# Altium footprint library semicon.PCBLIB: 115 footprints (part 2 of 8)
Each footprint in its own frame and in the unit in brackets; x right, y up, seen from the top. Pads: shape width x height; smd on the part's side, far side on the other; paste and mask are expansions set on the pad; w line width, h text height; cw(c..) or ccw(c..) is an arc to the next point about the centre after c.
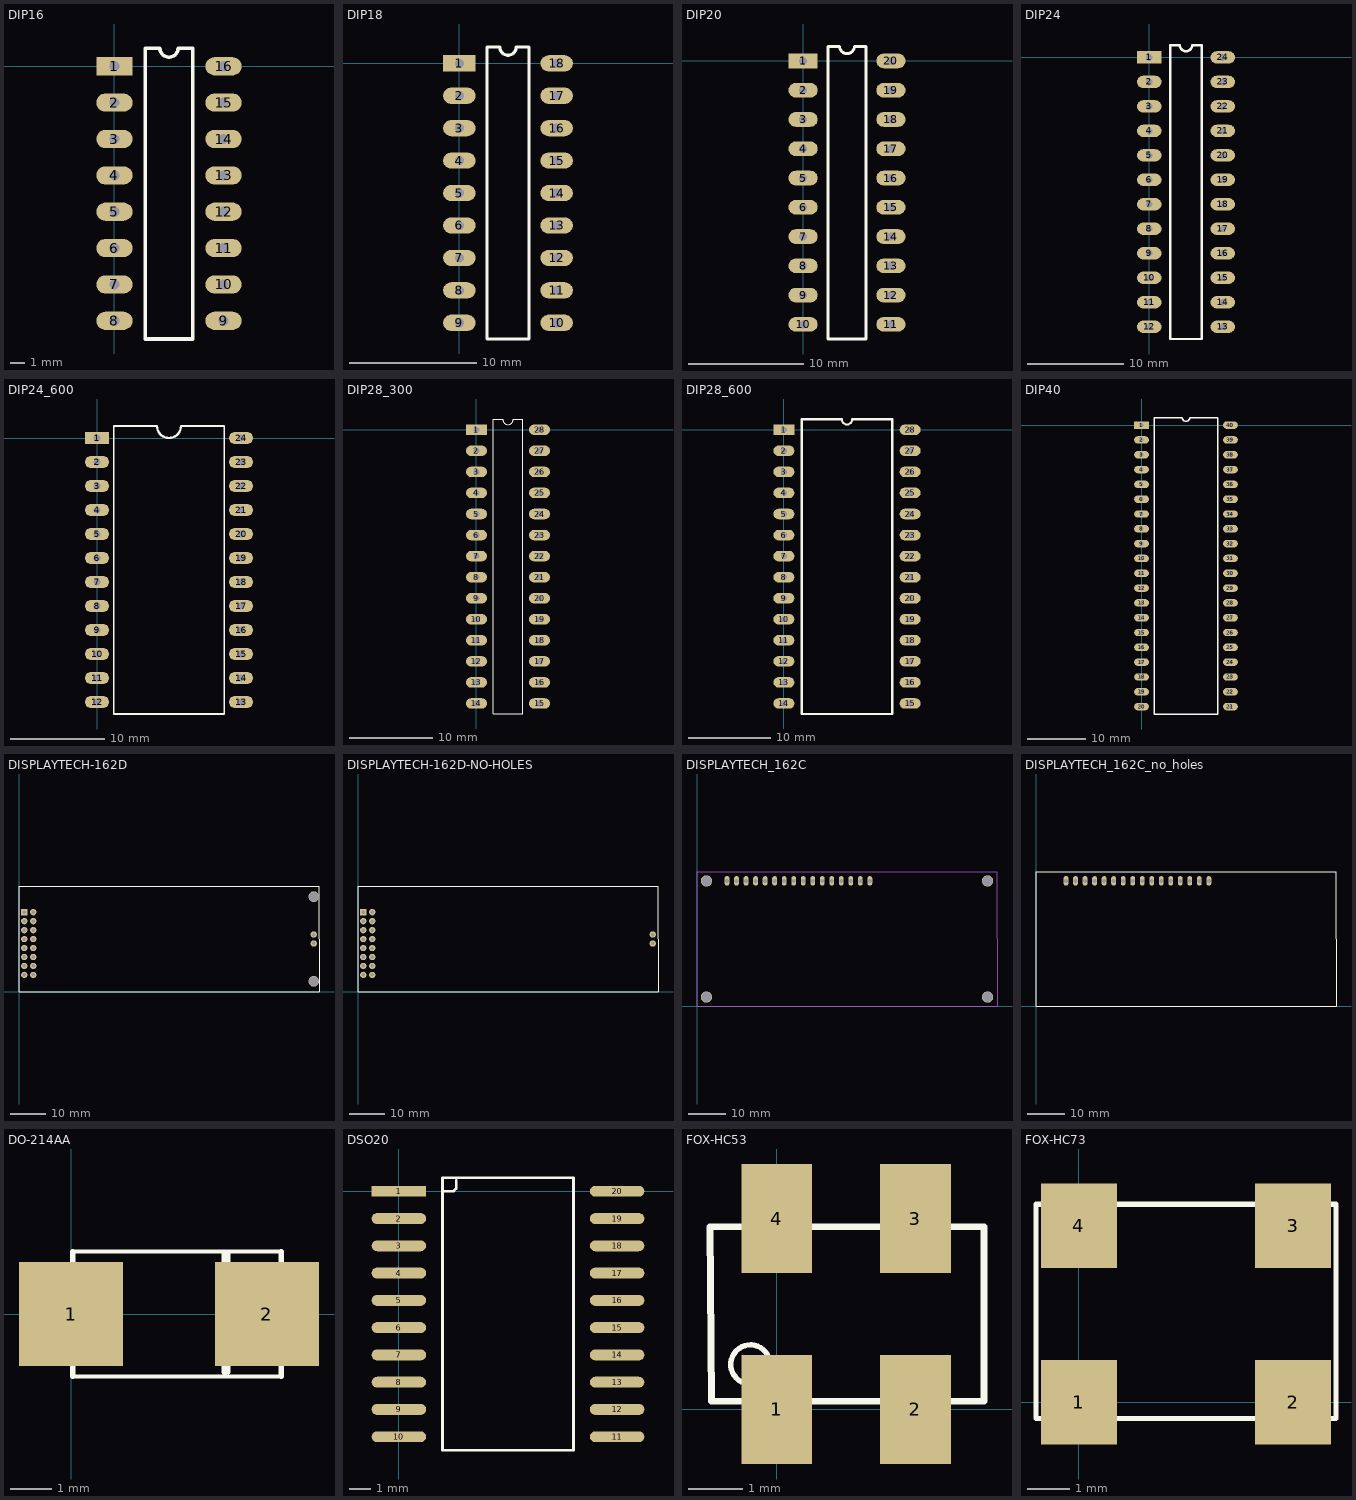
[diagram p1: the footprints below, top view; thin cyan lines are the x and y axes]

## DIP16 [mil]
pads (16):
  rect 100x50 hole 28: 1(0,0)
  oval 100x50 hole 28: 2(0,-100) 3(0,-200) 4(0,-300) 5(0,-400) 6(0,-500) 7(0,-600) 8(0,-700) 9(300,-700) 10(300,-600) 11(300,-500) 12(300,-400) 13(300,-300) 14(300,-200) 15(300,-100) 16(300,0)
Top Overlay:
  lines w10: 85,-750 85,50 125,50 ccw(c150,50) 175,50 215,50 215,-750 85,-750

## DIP18 [mil]
pads (18):
  rect 100x50 hole 28: 1(0,0)
  oval 100x50 hole 28: 2(0,-100) 3(0,-200) 4(0,-300) 5(0,-400) 6(0,-500) 7(0,-600) 8(0,-700) 9(0,-800) 10(300,-800) 11(300,-700) 12(300,-600) 13(300,-500) 14(300,-400) 15(300,-300) 16(300,-200) 17(300,-100) 18(300,0)
Top Overlay:
  lines w10: 85,-850 85,50 125,50 ccw(c150,50) 175,50 215,50 215,-850 85,-850

## DIP20 [mil]
pads (20):
  rect 100x50 hole 28: 1(0,0)
  oval 100x50 hole 28: 2(0,-100) 3(0,-200) 4(0,-300) 5(0,-400) 6(0,-500) 7(0,-600) 8(0,-700) 9(0,-800) 10(0,-900) 11(300,-900) 12(300,-800) 13(300,-700) 14(300,-600) 15(300,-500) 16(300,-400) 17(300,-300) 18(300,-200) 19(300,-100) 20(300,0)
Top Overlay:
  lines w10: 85,-950 85,50 125,50 ccw(c150,50) 175,50 215,50 215,-950 85,-950

## DIP24 [mil]
pads (24):
  rect 100x50 hole 28: 1(0,0)
  oval 100x50 hole 28: 2(0,-100) 3(0,-200) 4(0,-300) 5(0,-400) 6(0,-500) 7(0,-600) 8(0,-700) 9(0,-800) 10(0,-900) 11(0,-1000) 12(0,-1100) 13(300,-1100) 14(300,-1000) 15(300,-900) 16(300,-800) 17(300,-700) 18(300,-600) 19(300,-500) 20(300,-400) 21(300,-300) 22(300,-200) 23(300,-100) 24(300,0)
Top Overlay:
  lines w10: 85,-1150 85,50 125,50 ccw(c150,50) 175,50 215,50 215,-1150 85,-1150

## DIP24_600 [mil]
pads (24):
  rect 100x50 hole 28: 1(0,0)
  oval 100x50 hole 28: 2(0,-100) 3(0,-200) 4(0,-300) 5(0,-400) 6(0,-500) 7(0,-600) 8(0,-700) 9(0,-800) 10(0,-900) 11(0,-1000) 12(0,-1100) 13(600,-1100) 14(600,-1000) 15(600,-900) 16(600,-800) 17(600,-700) 18(600,-600) 19(600,-500) 20(600,-400) 21(600,-300) 22(600,-200) 23(600,-100) 24(600,0)
Top Overlay:
  lines w7.87: 250,50 70,50 70,-1150 530,-1150 530,50 360,50 ; 350,50 360,50 ; 360,50 360,50
  lines w10: 250,50 ccw(c300,50) 300,0 ccw(c300,50) 350,50

## DIP28_300 [mil]
pads (28):
  rect 100x50 hole 28: 1(0,0)
  oval 100x50 hole 28: 2(0,-100) 3(0,-200) 4(0,-300) 5(0,-400) 6(0,-500) 7(0,-600) 8(0,-700) 9(0,-800) 10(0,-900) 11(0,-1000) 12(0,-1100) 13(0,-1200) 14(0,-1300) 15(300,-1300) 16(300,-1200) 17(300,-1100) 18(300,-1000) 19(300,-900) 20(300,-800) 21(300,-700) 22(300,-600) 23(300,-500) 24(300,-400) 25(300,-300) 26(300,-200) 27(300,-100) 28(300,0)
Top Overlay:
  lines w5: 80,-1350 80,50 125,50 ccw(c150,50) 175,50 220,50 220,-1350 80,-1350

## DIP28_600 [mil]
pads (28):
  rect 100x50 hole 28: 1(0,0)
  oval 100x50 hole 28: 2(0,-100) 3(0,-200) 4(0,-300) 5(0,-400) 6(0,-500) 7(0,-600) 8(0,-700) 9(0,-800) 10(0,-900) 11(0,-1000) 12(0,-1100) 13(0,-1200) 14(0,-1300) 15(600,-1300) 16(600,-1200) 17(600,-1100) 18(600,-1000) 19(600,-900) 20(600,-800) 21(600,-700) 22(600,-600) 23(600,-500) 24(600,-400) 25(600,-300) 26(600,-200) 27(600,-100) 28(600,0)
Top Overlay:
  lines w10: 85,-1350 85,50 275,50 ccw(c300,50) 325,50 515,50 515,-1350 85,-1350

## DIP40 [mil]
pads (40):
  rect 100x50 hole 28: 1(0,0)
  oval 100x50 hole 28: 2(0,-100) 3(0,-200) 4(0,-300) 5(0,-400) 6(0,-500) 7(0,-600) 8(0,-700) 9(0,-800) 10(0,-900) 11(0,-1000) 12(0,-1100) 13(0,-1200) 14(0,-1300) 15(0,-1400) 16(0,-1500) 17(0,-1600) 18(0,-1700) 19(0,-1800) 20(0,-1900) 21(600,-1900) 22(600,-1800) 23(600,-1700) 24(600,-1600) 25(600,-1500) 26(600,-1400) 27(600,-1300) 28(600,-1200) 29(600,-1100) 30(600,-1000) 31(600,-900) 32(600,-800) 33(600,-700) 34(600,-600) 35(600,-500) 36(600,-400) 37(600,-300) 38(600,-200) 39(600,-100) 40(600,0)
Top Overlay:
  lines w10: 85,-1950 515,-1950 515,50 325,50 cw(c300,50) 275,50 85,50 85,-1950

## DISPLAYTECH-162D [mm]
pads (20):
  rect 1.8x1.8 hole 1: 1(1.5,22.6)
  round 1.8 hole 1: 2(4.04,22.6) 3(1.5,20.06) 4(4.04,20.06) 5(1.5,17.52) 6(4.04,17.52) 7(1.5,14.98) 8(4.04,14.98) 9(1.5,12.44) 10(4.04,12.44) 11(1.5,9.9) 12(4.04,9.9) 13(1.5,7.36) 14(4.04,7.36) 15(83.5,16.27) 16(83.5,13.73) ""(1.5,4.825) ""(4.04,4.82)
  round 3 hole 2.7: ""(83.5,3) ""(83.5,27)
Top Overlay:
  lines w0.1: 0,0 0,30 85,30 85,0 0,0

## DISPLAYTECH-162D-NO-HOLES [mm]
pads (18):
  rect 1.8x1.8 hole 1: 1(1.5,22.6)
  round 1.8 hole 1: 2(4.04,22.6) 3(1.5,20.06) 4(4.04,20.06) 5(1.5,17.52) 6(4.04,17.52) 7(1.5,14.98) 8(4.04,14.98) 9(1.5,12.44) 10(4.04,12.44) 11(1.5,9.9) 12(4.04,9.9) 13(1.5,7.36) 14(4.04,7.36) 15(83.5,16.27) 16(83.5,13.73) ""(1.5,4.825) ""(4.04,4.82)
Top Overlay:
  lines w0.1: 0,0 0,30 85,30 85,0 0,0

## DISPLAYTECH_162C [mm]
pads (20):
  oval 1.27x2.54 hole 1.016: 1(8,33.5) 2(10.54,33.5) 3(13.08,33.5) 4(15.62,33.5) 5(18.16,33.5) 6(20.7,33.5) 7(23.24,33.5) 8(25.78,33.5) 9(28.32,33.5) 10(30.86,33.5) 11(33.4,33.5) 12(35.94,33.5) 13(38.48,33.5) 14(41.02,33.5) 15(43.56,33.5) 16(46.1,33.5)
  round 3 hole 2.7: ""(2.5,2.5) ""(2.5,33.5) ""(77.5,2.5) ""(77.5,33.5)
Mechanical 15:
  lines w0.1: 0,0 0,36 80,36 80,0 0,0

## DISPLAYTECH_162C_no_holes [mm]
pads (16):
  oval 1.27x2.54 hole 1.016: 1(8,33.5) 2(10.54,33.5) 3(13.08,33.5) 4(15.62,33.5) 5(18.16,33.5) 6(20.7,33.5) 7(23.24,33.5) 8(25.78,33.5) 9(28.32,33.5) 10(30.86,33.5) 11(33.4,33.5) 12(35.94,33.5) 13(38.48,33.5) 14(41.02,33.5) 15(43.56,33.5) 16(46.1,33.5)
Top Overlay:
  lines w0.1: 0,0 80,0 80,36 0,36 0,0

## DO-214AA [mm]
pads (2):
  rect 2.5x2.5 smd: 1(0,0) 2(4.7,0)
Top Overlay:
  lines w0.1: 0.043,-1.5 5.043,-1.5 ; 0.043,1.5 5.043,1.5 ; 3.662,-1.4 3.662,1.5 ; 3.689,-1.5 3.689,1.5 ; 3.773,-1.4 3.773,1.5
  lines w0.127: 0,-1.143 0.043,-1.186 0.043,-1.5 ; 0,1.143 0.043,1.186 0.043,1.5 ; 5.043,-1.5 5.043,-1.18 5.08,-1.143 ; 5.043,1.5 5.043,1.18 5.08,1.143

## DSO20 [mil]
pads (20):
  rect 100x20 smd: 1(0,0)
  oval 100x20 smd: 2(0,-50) 3(0,-100) 4(0,-150) 5(0,-200) 6(0,-250) 7(0,-300) 8(0,-350) 9(0,-400) 10(0,-450) 11(400,-450) 12(400,-400) 13(400,-350) 14(400,-300) 15(400,-250) 16(400,-200) 17(400,-150) 18(400,-100) 19(400,-50) 20(400,0)
Top Overlay:
  lines w5: 80,0 100,0 105,5 105,20 ; 212.5,25 320,25 320,-475 80,-475 80,25 215,25

## FOX-HC53 [mm]
pads (4):
  rect 1.3x2 smd: 1(0,0) 2(2.54,0) 3(2.54,3.5) 4(0,3.5)
Top Overlay:
  circle w0.1: c-0.484,0.825 r0.359
  lines w0.127: -1.225,3.35 -1.2,0.15 3.8,0.15 3.8,3.35 -1.2,3.35

## FOX-HC73 [mil]
pads (4):
  rect 71x79 smd: 1(0,0) 2(200,0) 3(200,165) 4(0,165)
Top Overlay:
  circle w10: c5,20 r14.14
  lines w5: -40,-15 -40,185 240,185 240,-15 -40,-15